# EAGLE library part OMAT_IC_2_IIS328DQTR (library cpu)
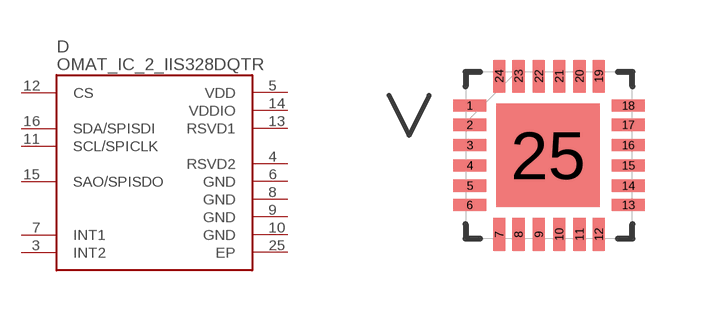
[diagram p3: symbol with the pads of OMAT_IC_2_QFN50P400X400X100-25N; footprint OMAT_IC_2_QFN50P400X400X100-25N]

Designator prefix D

## OMAT_IC_2_IIS328DQTR  [OMAT_IC_2_QFN50P400X400X100-25N]
3  INT2
4  RSVD2
5  VDD
6  GND
7  INT1
8  GND
9  GND
10  GND
11  SCL/SPICLK
12  CS
13  RSVD1
14  VDDIO
15  SAO/SPISDO
16  SDA/SPISDI
25  EP

## Footprint OMAT_IC_2_QFN50P400X400X100-25N (pad centres in mm)
smd 0.813 x 0.305: 1 -1.981,1.245; 2 -1.981,0.762; 3 -1.981,0.254; 4 -1.981,-0.254; 5 -1.981,-0.762; 6 -1.981,-1.245; 13 1.981,-1.245; 14 1.981,-0.762; 15 1.981,-0.254; 16 1.981,0.254; 17 1.981,0.762; 18 1.981,1.245
smd 0.305 x 0.813: 7 -1.245,-1.981; 8 -0.762,-1.981; 9 -0.254,-1.981; 10 0.254,-1.981; 11 0.762,-1.981; 12 1.245,-1.981; 19 1.245,1.981; 20 0.762,1.981; 21 0.254,1.981; 22 -0.254,1.981; 23 -0.762,1.981; 24 -1.245,1.981
smd 2.591 x 2.591: 25 -0.025,0